# Altium integrated library Optocouplers.IntLib: 10 symbols
Pins are listed as number, name and electrical type; pins without a type are passive.

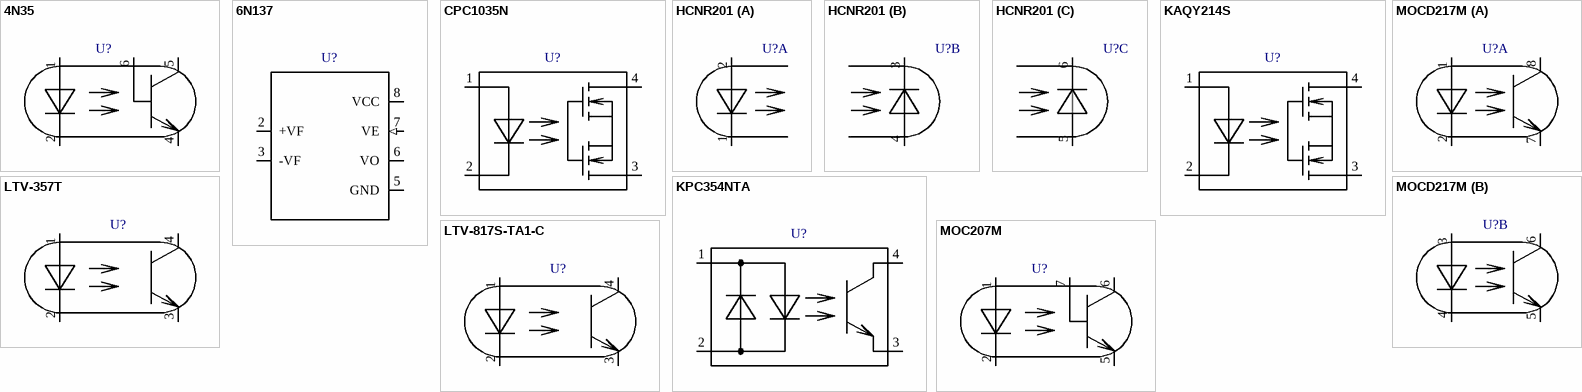
[diagram p0: symbols 4N35 to MOCD217M]

## 4N35
designator U?  (value not drawn)
High Gain Darlington Output Optocoupler
footprint DIP-6
footprint DIP-6 Gull Wing
pins: 1 A, 2 K, 4 E, 5 C, 6 B

## 6N137
designator U?  (value not drawn)
High Speed Optocoupler 10Mbd Open Collector Single Channel
footprint DIP-8 Gull Wing (Case 709AC)
footprint DIP-8
pins: 1 NC, 2 +VF, 3 -VF, 4 NC, 5 GND (power), 6 VO (oc), 7 VE (in), 8 VCC (power)
1 alternate drawing of the same symbol

## CPC1035N
designator U?  (value not drawn)
350V Normally-Open Single-Pole OptoMOS Relay; Manufacturer: IXYS; 1Ccode: М00024607; 1Cname: CPC1035N Clare (HSSR-S1A01L-2); 1Cgroup: 01010103; 1Carticle: 2878; Name: Оптрон CPC1035N; 1CfullName: CPC1035N Clare (HSSR-S1A01L-2); PartNumber: CPC1035N; Case: SOP-4; ComponentLink1Description: DatasheetLink; ComponentLink1URL: https://www.littelfuse.com/media?resourcetype=datasheets&itemid=08bd8157-8d72-40fa-ab7a-62246e4327d5&filename=littelfuse-integrated-circuits-cpc1035n-series-datasheet
footprint SOP-4
pins: 1 A, 2 K, 3 S, 4 D

## HCNR201
designator U?  (value not drawn)
Dual-Channel Phototransistor Output Optocoupler
footprint DIP-8 Gull Wing 0.400 Spacing
footprint DIP-8 0.400 Spacing
part A pins: 1 LED K, 2 LED A
part B pins: 3 PD1 K, 4 PD1 A
part C pins: 5 PD2 A, 6 PD2 K

## KAQY214S
designator U?  (value not drawn)
400V Solid State RelayMOSFET Output
footprint SOP-4
pins: 1 A, 2 K, 3 S, 4 D

## KPC354NTA
designator U?  (value not drawn)
AC Input Phototransistor Optocoupler; Manufacturer: Cosmo; 1Ccode: М00024602; 1Cname: KPC354NTA Cosmo(TLP184(GR-TPL,SE)T; 1Cgroup: 01010103; 1Carticle: 6334; Name: Оптрон KPC354NTA; 1CfullName: KPC354NTA Cosmo(TLP184(GR-TPL,SE)T; PartNumber: KPC354NTA; ComponentLink1Description: DatasheetLink; ComponentLink1URL: *; Case: SOP-4 4.4mm
footprint SOP-4 4.4MM BODY (SOP, 4-Leads, Body 3.85x4.40mm, Pitch 2.54mm, IPC Low Density)
pins: 1 AK, 2 AK, 3 S, 4 D

## LTV-357T
designator U?  (value not drawn)
Transistor Output Optocoupler; 1Ccode: *; 1Cname: *; 1CfullName: *; 1Cgroup: *; 1Carticle: *; Manufacturer: *; Name: *; PartNumber: *; ComponentLink1Description: DatasheetLink; ComponentLink1URL: *; Case: *
footprint SOP-4 4.4MM BODY (SOP, 4-Leads, Body 3.85x4.40mm, Pitch 2.54mm, IPC Low Density)
pins: 1 A, 2 K, 3 E, 4 C

## LTV-817S-TA1-C
designator U?  (value not drawn)
Transistor Output Optocoupler
footprint DIP-4 Gull Wing
pins: 1 A, 2 K, 3 E, 4 C

## MOC207M
designator U?  (value not drawn)
Small Outline Optoisolator Transistor Output
footprint SO-8 (SOIC, 8-Leads, Body 4,88x3,91mm, Pitch 1,27mm, IPC Low Density)
pins: 1 A, 2 K, 5 E, 6 C, 7 B

## MOCD217M
designator U?  (value not drawn)
Dual-Channel Phototransistor Output Optocoupler
footprint SO-8 (SOIC, 8-Leads, Body 4,88x3,91mm, Pitch 1,27mm, IPC Low Density)
part A pins: 1 A1, 2 K1, 7 E1, 8 C1
part B pins: 3 A2, 4 K2, 5 E2, 6 C2